# Altium schematic symbol library IM69D128.SchLib: 1 symbol
Pins are listed as number, name and electrical type; pins without a type are passive.

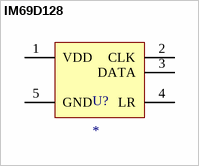
[diagram p0: symbol IM69D128]

## IM69D128
designator U?
BOTTOM PORT PDM DIGITAL OUTPUT MIC
pins: 1 VDD (power), 2 CLK (power), 3 DATA (power), 4 LR (power), 5 GND (power)